# Altium footprint library Display_Pcb.PcbLib: 1 footprints
Each footprint in its own frame and in the unit in brackets; x right, y up, seen from the top. Pads: shape width x height; smd on the part's side, far side on the other; paste and mask are expansions set on the pad; w line width, h text height; cw(c..) or ccw(c..) is an arc to the next point about the centre after c.
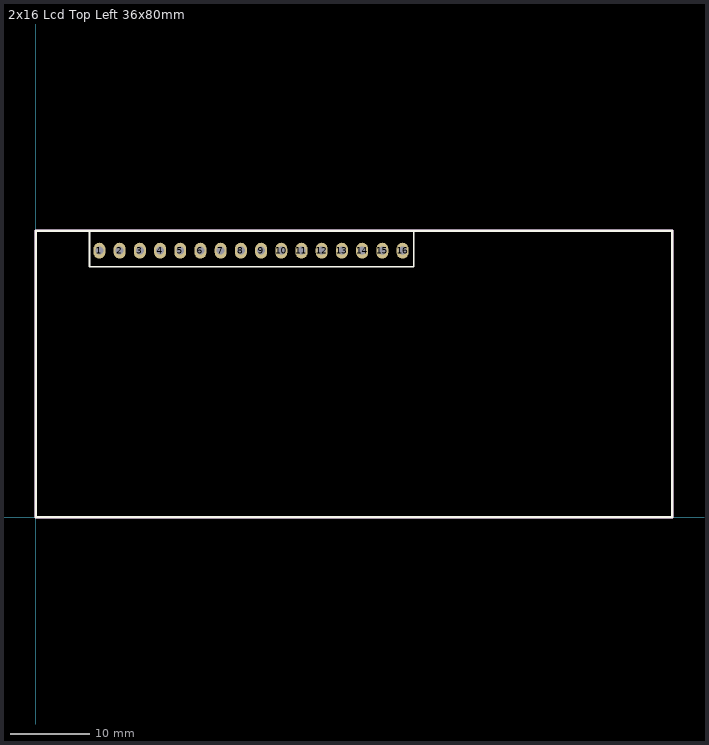
[diagram p0: the footprint, top view; thin cyan lines are the x and y axes]

## 2x16 Lcd Top Left 36x80mm [mm]
pads (16):
  oval 1.5x2 hole 1 paste+0 mask+0.1: 1(8,33.5) 2(10.54,33.5) 3(13.08,33.5) 4(15.62,33.5) 5(18.16,33.5) 6(20.7,33.5) 7(23.24,33.5) 8(25.78,33.5) 9(28.32,33.5) 10(30.86,33.5) 11(33.4,33.5) 12(35.94,33.5) 13(38.48,33.5) 14(41.02,33.5) 15(43.56,33.5) 16(46.1,33.5)
Top Overlay:
  lines w0.2: 6.75,36 6.75,31.5 47.5,31.5 47.5,36
  lines w0.3: 0,0 0,36 80,36 80,0 0,0
Mechanical 1:
  lines w0.2: 0,0 0,36 80,36 80,0 0,0
  text "'.designator'" at 0.15,1.317 h0.5
Mechanical 15:
  lines w0.3: 0,0 0,36 80,36 80,0 0,0
3D body "16x2 Charecter Lcd V3.STEP": height 12.31, standoff -5.99, extent 0,0 80,36